# Altium footprint library 292323_6.PcbLib: 1 footprints
Each footprint in its own frame and in the unit in brackets; x right, y up, seen from the top. Pads: shape width x height; smd on the part's side, far side on the other; paste and mask are expansions set on the pad; w line width, h text height; cw(c..) or ccw(c..) is an arc to the next point about the centre after c.
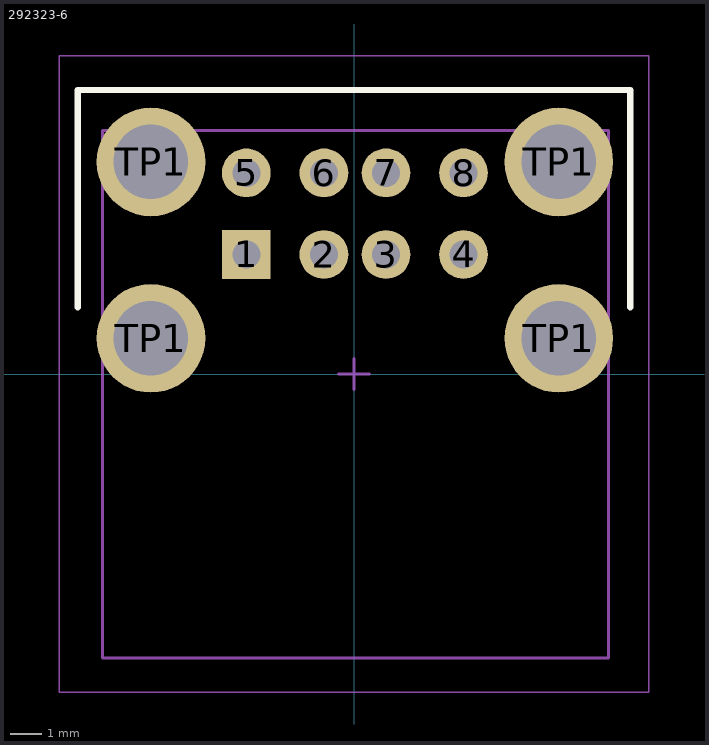
[diagram p0: the footprint, top view; thin cyan lines are the x and y axes]

## 292323-6 [mm] "USB 2.0 Type A x2 R/A Type"
height 15.5
pads (12):
  rect 1.57x1.57 hole 0.9: 1(-3.47,3.85)
  round 1.57 hole 0.9: 2(-0.97,3.85) 3(1.03,3.85) 4(3.53,3.85) 5(-3.47,6.48) 6(-0.97,6.48) 7(1.03,6.48) 8(3.53,6.48)
  round 3.5 hole 2.4: TP1(-6.54,1.15) TP1(-6.54,6.83) TP1(6.6,1.15) TP1(6.6,6.83)
Top Overlay:
  lines w0.2: -8.9,2.15 -8.9,9.15 0.1,9.15 8.9,9.15 8.9,2.15
Top Comment:
  text ".Comment" at 1.1,10.4 h1.2
Top Designator:
  text ".Designator" at -0.4,10.4 h1.2
Top Component Outline:
  lines w0.1: -8.1,-9.15 8.2,-9.15 8.2,7.85 0,7.85 -8.1,7.85 -8.1,-9.15
Top Courtyard (Mech15):
  lines w0.05: -9.5,-10.25 9.5,-10.25 9.5,10.25 -9.5,10.25 -9.5,-10.25
  lines w0.1: -0.5,0 0.5,0 ; 0,-0.5 0,0.5
3D body "c-292323-6-d-3d.stp": height 16.25, standoff -3.49, extent -8.07,-9.15 8.168,7.85